# EAGLE library part MOLEX_F (library ConV4)
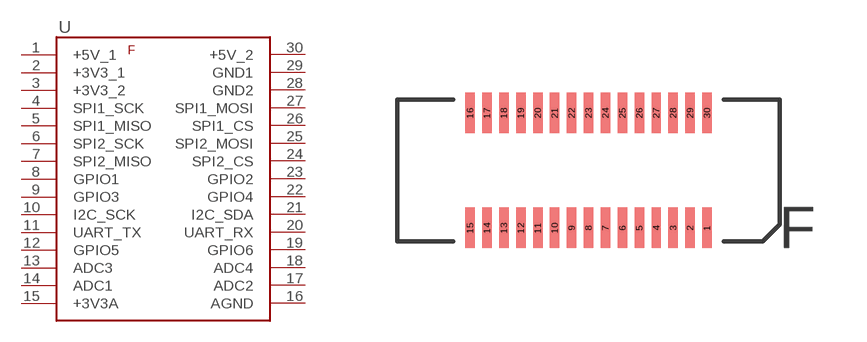
[diagram p3: symbol with the pads of MOLEX_F; footprint MOLEX_F]

Designator prefix -

## MOLEX_F  [MOLEX_F]
1  +5V_1
2  +3V3_1
3  +3V3_2
4  SPI1_SCK
5  SPI1_MISO
6  SPI2_SCK
7  SPI2_MISO
8  GPIO1
9  GPIO3
10  I2C_SCK
11  UART_TX
12  GPIO5
13  ADC3
14  ADC1
15  +3V3A
16  AGND
17  ADC2
18  ADC4
19  GPIO6
20  UART_RX
21  I2C_SDA
22  GPIO4
23  GPIO2
24  SPI2_CS
25  SPI2_MOSI
26  SPI1_CS
27  SPI1_MOSI
28  GND2
29  GND1
30  +5V_2

## Footprint MOLEX_F (pad centres in mm)
smd 0.28 x 1.2: 1 0,-1.7; 2 -0.5,-1.7; 3 -1,-1.7; 4 -1.5,-1.7; 5 -2,-1.7; 6 -2.5,-1.7; 7 -3,-1.7; 8 -3.5,-1.7; 9 -4,-1.7; 10 -4.5,-1.7; 11 -5,-1.7; 12 -5.5,-1.7; 13 -6,-1.7; 14 -6.5,-1.7; 15 -7,-1.7; 16 -7,1.7; 17 -6.5,1.7; 18 -6,1.7; 19 -5.5,1.7; 20 -5,1.7; 21 -4.5,1.7; 22 -4,1.7; 23 -3.5,1.7; 24 -3,1.7; 25 -2.5,1.7; 26 -2,1.7; 27 -1.5,1.7; 28 -1,1.7; 29 -0.5,1.7; 30 0,1.7